# Altium schematic symbol library SCH - ARM CORTEX - ST STM32G071RxI UFBGA64.SCHLIB: 1 symbol
Pins are listed as number, name and electrical type; pins without a type are passive.

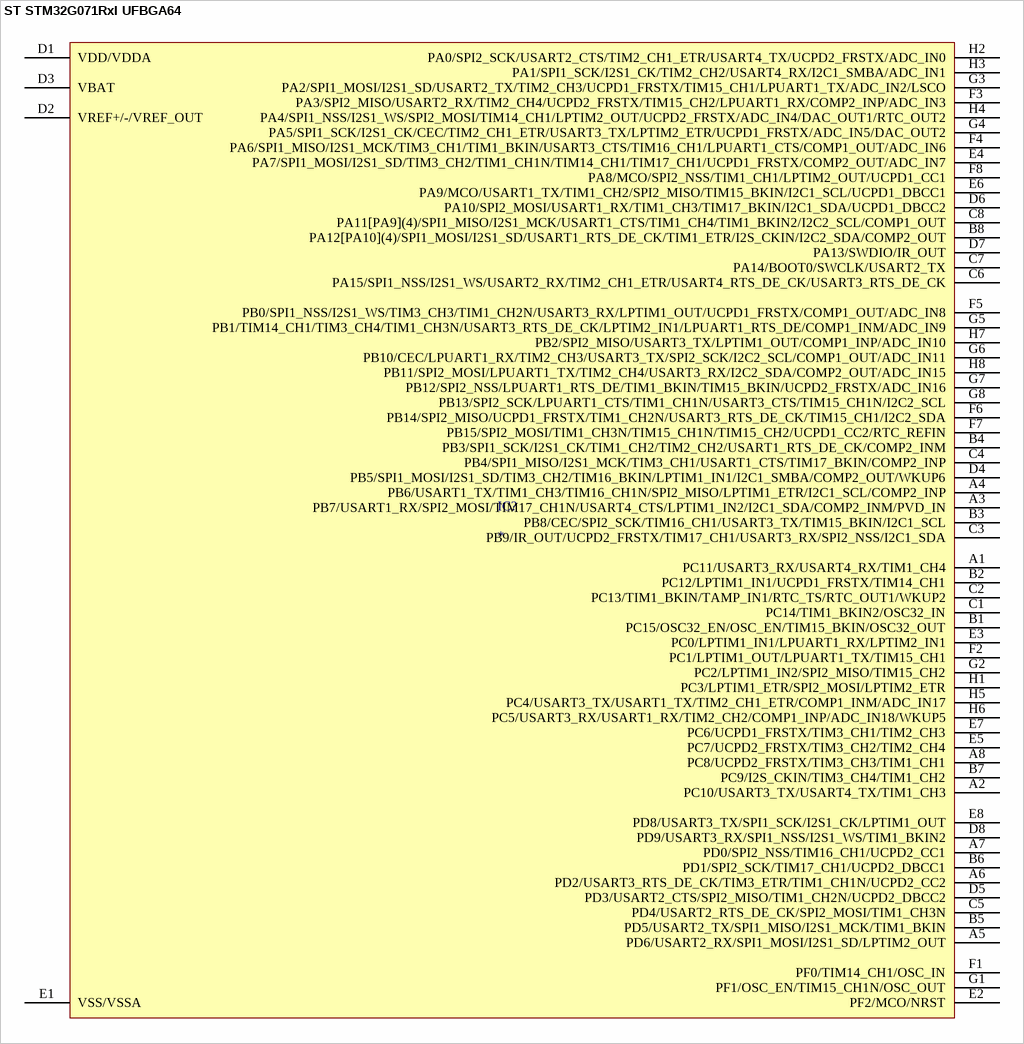
[diagram p0: symbol ST STM32G071RxI UFBGA64]

## ST STM32G071RxI UFBGA64
designator IC?
pins: A1 PC11/USART3_RX/USART4_RX/TIM1_CH4, A2 PC10/USART3_TX/USART4_TX/TIM1_CH3, A3 PB7/USART1_RX/SPI2_MOSI/TIM17_CH1N/USART4_CTS/LPTIM1_IN2/I2C1_SDA/COMP2_INM/PVD_IN, A4 PB6/USART1_TX/TIM1_CH3/TIM16_CH1N/SPI2_MISO/LPTIM1_ETR/I2C1_SCL/COMP2_INP, A5 PD6/USART2_RX/SPI1_MOSI/I2S1_SD/LPTIM2_OUT, A6 PD2/USART3_RTS_DE_CK/TIM3_ETR/TIM1_CH1N/UCPD2_CC2, A7 PD0/SPI2_NSS/TIM16_CH1/UCPD2_CC1, A8 PC8/UCPD2_FRSTX/TIM3_CH3/TIM1_CH1, B1 PC15/OSC32_EN/OSC_EN/TIM15_BKIN/OSC32_OUT, B2 PC12/LPTIM1_IN1/UCPD1_FRSTX/TIM14_CH1, B3 PB8/CEC/SPI2_SCK/TIM16_CH1/USART3_TX/TIM15_BKIN/I2C1_SCL, B4 PB3/SPI1_SCK/I2S1_CK/TIM1_CH2/TIM2_CH2/USART1_RTS_DE_CK/COMP2_INM, B5 PD5/USART2_TX/SPI1_MISO/I2S1_MCK/TIM1_BKIN, B6 PD1/SPI2_SCK/TIM17_CH1/UCPD2_DBCC1, B7 PC9/I2S_CKIN/TIM3_CH4/TIM1_CH2, B8 PA12[PA10](4)/SPI1_MOSI/I2S1_SD/USART1_RTS_DE_CK/TIM1_ETR/I2S_CKIN/I2C2_SDA/COMP2_OUT, C1 PC14/TIM1_BKIN2/OSC32_IN, C2 PC13/TIM1_BKIN/TAMP_IN1/RTC_TS/RTC_OUT1/WKUP2, C3 PB9/IR_OUT/UCPD2_FRSTX/TIM17_CH1/USART3_RX/SPI2_NSS/I2C1_SDA, C4 PB4/SPI1_MISO/I2S1_MCK/TIM3_CH1/USART1_CTS/TIM17_BKIN/COMP2_INP, C5 PD4/USART2_RTS_DE_CK/SPI2_MOSI/TIM1_CH3N, C6 PA15/SPI1_NSS/I2S1_WS/USART2_RX/TIM2_CH1_ETR/USART4_RTS_DE_CK/USART3_RTS_DE_CK, C7 PA14/BOOT0/SWCLK/USART2_TX, C8 PA11[PA9](4)/SPI1_MISO/I2S1_MCK/USART1_CTS/TIM1_CH4/TIM1_BKIN2/I2C2_SCL/COMP1_OUT, D1 VDD/VDDA, D2 VREF+/-/VREF_OUT, D3 VBAT, D4 PB5/SPI1_MOSI/I2S1_SD/TIM3_CH2/TIM16_BKIN/LPTIM1_IN1/I2C1_SMBA/COMP2_OUT/WKUP6, D5 PD3/USART2_CTS/SPI2_MISO/TIM1_CH2N/UCPD2_DBCC2, D6 PA10/SPI2_MOSI/USART1_RX/TIM1_CH3/TIM17_BKIN/I2C1_SDA/UCPD1_DBCC2, D7 PA13/SWDIO/IR_OUT, D8 PD9/USART3_RX/SPI1_NSS/I2S1_WS/TIM1_BKIN2, E1 VSS/VSSA, E2 PF2/MCO/NRST, E3 PC0/LPTIM1_IN1/LPUART1_RX/LPTIM2_IN1, E4 PA7/SPI1_MOSI/I2S1_SD/TIM3_CH2/TIM1_CH1N/TIM14_CH1/TIM17_CH1/UCPD1_FRSTX/COMP2_OUT/ADC_IN7, E5 PC7/UCPD2_FRSTX/TIM3_CH2/TIM2_CH4, E6 PA9/MCO/USART1_TX/TIM1_CH2/SPI2_MISO/TIM15_BKIN/I2C1_SCL/UCPD1_DBCC1, E7 PC6/UCPD1_FRSTX/TIM3_CH1/TIM2_CH3, E8 PD8/USART3_TX/SPI1_SCK/I2S1_CK/LPTIM1_OUT, F1 PF0/TIM14_CH1/OSC_IN, F2 PC1/LPTIM1_OUT/LPUART1_TX/TIM15_CH1, F3 PA3/SPI2_MISO/USART2_RX/TIM2_CH4/UCPD2_FRSTX/TIM15_CH2/LPUART1_RX/COMP2_INP/ADC_IN3, F4 PA6/SPI1_MISO/I2S1_MCK/TIM3_CH1/TIM1_BKIN/USART3_CTS/TIM16_CH1/LPUART1_CTS/COMP1_OUT/ADC_IN6, F5 PB0/SPI1_NSS/I2S1_WS/TIM3_CH3/TIM1_CH2N/USART3_RX/LPTIM1_OUT/UCPD1_FRSTX/COMP1_OUT/ADC_IN8, F6 PB14/SPI2_MISO/UCPD1_FRSTX/TIM1_CH2N/USART3_RTS_DE_CK/TIM15_CH1/I2C2_SDA, F7 PB15/SPI2_MOSI/TIM1_CH3N/TIM15_CH1N/TIM15_CH2/UCPD1_CC2/RTC_REFIN, F8 PA8/MCO/SPI2_NSS/TIM1_CH1/LPTIM2_OUT/UCPD1_CC1, G1 PF1/OSC_EN/TIM15_CH1N/OSC_OUT, G2 PC2/LPTIM1_IN2/SPI2_MISO/TIM15_CH2, G3 PA2/SPI1_MOSI/I2S1_SD/USART2_TX/TIM2_CH3/UCPD1_FRSTX/TIM15_CH1/LPUART1_TX/ADC_IN2/LSCO, G4 PA5/SPI1_SCK/I2S1_CK/CEC/TIM2_CH1_ETR/USART3_TX/LPTIM2_ETR/UCPD1_FRSTX/ADC_IN5/DAC_OUT2, G5 PB1/TIM14_CH1/TIM3_CH4/TIM1_CH3N/USART3_RTS_DE_CK/LPTIM2_IN1/LPUART1_RTS_DE/COMP1_INM/ADC_IN9, G6 PB10/CEC/LPUART1_RX/TIM2_CH3/USART3_TX/SPI2_SCK/I2C2_SCL/COMP1_OUT/ADC_IN11, G7 PB12/SPI2_NSS/LPUART1_RTS_DE/TIM1_BKIN/TIM15_BKIN/UCPD2_FRSTX/ADC_IN16, G8 PB13/SPI2_SCK/LPUART1_CTS/TIM1_CH1N/USART3_CTS/TIM15_CH1N/I2C2_SCL, H1 PC3/LPTIM1_ETR/SPI2_MOSI/LPTIM2_ETR, H2 PA0/SPI2_SCK/USART2_CTS/TIM2_CH1_ETR/USART4_TX/UCPD2_FRSTX/ADC_IN0, H3 PA1/SPI1_SCK/I2S1_CK/TIM2_CH2/USART4_RX/I2C1_SMBA/ADC_IN1, H4 PA4/SPI1_NSS/I2S1_WS/SPI2_MOSI/TIM14_CH1/LPTIM2_OUT/UCPD2_FRSTX/ADC_IN4/DAC_OUT1/RTC_OUT2, H5 PC4/USART3_TX/USART1_TX/TIM2_CH1_ETR/COMP1_INM/ADC_IN17, H6 PC5/USART3_RX/USART1_RX/TIM2_CH2/COMP1_INP/ADC_IN18/WKUP5, H7 PB2/SPI2_MISO/USART3_TX/LPTIM1_OUT/COMP1_INP/ADC_IN10, H8 PB11/SPI2_MOSI/LPUART1_TX/TIM2_CH4/USART3_RX/I2C2_SDA/COMP2_OUT/ADC_IN15